# Altium footprint library STM32F722RET6.PcbLib: 1 footprints
Each footprint in its own frame and in the unit in brackets; x right, y up, seen from the top. Pads: shape width x height; smd on the part's side, far side on the other; paste and mask are expansions set on the pad; w line width, h text height; cw(c..) or ccw(c..) is an arc to the next point about the centre after c.
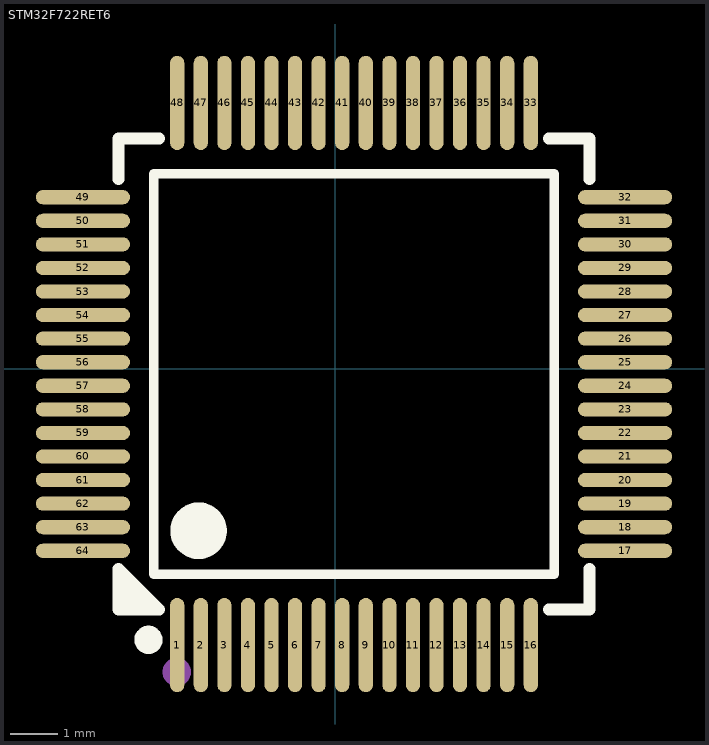
[diagram p0: the footprint, top view; thin cyan lines are the x and y axes]

## STM32F722RET6 [mm]
pads (64):
  oval 0.3x2 smd paste+0 mask+0.051: 1(-3.35,-5.858) 2(-2.85,-5.858) 3(-2.35,-5.858) 4(-1.85,-5.858) 5(-1.35,-5.858) 6(-0.85,-5.858) 7(-0.35,-5.858) 8(0.15,-5.858) 9(0.65,-5.858) 10(1.15,-5.858) 11(1.65,-5.858) 12(2.15,-5.858) 13(2.65,-5.858) 14(3.15,-5.858) 15(3.65,-5.858) 16(4.15,-5.858) 33(4.15,5.642) 34(3.65,5.642) 35(3.15,5.642) 36(2.65,5.642) 37(2.15,5.642) 38(1.65,5.642) 39(1.15,5.642) 40(0.65,5.642) 41(0.15,5.642) 42(-0.35,5.642) 43(-0.85,5.642) 44(-1.35,5.642) 45(-1.85,5.642) 46(-2.35,5.642) 47(-2.85,5.642) 48(-3.35,5.642)
  oval 2x0.3 smd paste+0 mask+0.051: 17(6.15,-3.858) 18(6.15,-3.358) 19(6.15,-2.858) 20(6.15,-2.358) 21(6.15,-1.858) 22(6.15,-1.358) 23(6.15,-0.858) 24(6.15,-0.358) 25(6.15,0.142) 26(6.15,0.642) 27(6.15,1.142) 28(6.15,1.642) 29(6.15,2.142) 30(6.15,2.642) 31(6.15,3.142) 32(6.15,3.642) 49(-5.35,3.642) 50(-5.35,3.142) 51(-5.35,2.642) 52(-5.35,2.142) 53(-5.35,1.642) 54(-5.35,1.142) 55(-5.35,0.642) 56(-5.35,0.142) 57(-5.35,-0.358) 58(-5.35,-0.858) 59(-5.35,-1.358) 60(-5.35,-1.858) 61(-5.35,-2.358) 62(-5.35,-2.858) 63(-5.35,-3.358) 64(-5.35,-3.858)
Top Overlay:
  region: -3.731,-5.108 -4.6,-4.239 -4.6,-5.108
  lines w0.2: -3.85,-4.358 4.65,-4.358 4.65,4.142 -3.85,4.142 -3.85,-4.358
  lines w0.254: -4.6,4.023 -4.6,4.892 -3.731,4.892 ; 4.531,-5.108 5.4,-5.108 5.4,-4.239 ; 4.531,4.892 5.4,4.892 5.4,4.023 ; -4.6,-4.239 -4.6,-5.108 -3.731,-5.108 -4.6,-4.239 ; -4.6,-4.239 -4.6,-4.239
  lines w0.3: -3.961,-5.598 ccw(c-3.96,-5.748) -3.959,-5.598
  lines w0.6: -2.9,-3.133 ccw(c-2.897,-3.433) -2.894,-3.133
Mechanical 15:
  circle w0.3: c-3.36,-6.428 r0.15